# EAGLE library part DMG6601LVT-7 (library TRANSISTORs)
Mosfet Array N and P-Channel 30V 3.8A, 2.5A 850mW Surface Mount TSOT-26
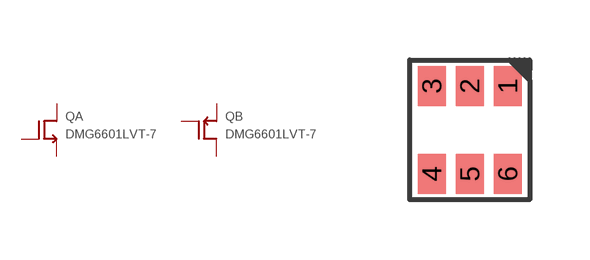
[diagram p5: symbol with the pads of SOT23-6; footprint SOT23-6]

Designator prefix Q; gates A=N_FET B=P_FET

## DMG6601LVT-7 (DIGIKEY: DMG6601LVT-7DICT-ND; HEIGHT: 1.1; PRICE_PER: 0.3; VALUE: DMG6601)  [SOT23-6]
1  A:G
2  B:S
3  B:G
4  B:D
5  A:S
6  A:D

## Footprint SOT23-6 (pad centres in mm)
smd 0.7 x 1: 1 0.95,1.1; 2 0,1.1; 3 -0.95,1.1; 4 -0.95,-1.1; 5 0,-1.1; 6 0.95,-1.1